# Altium footprint library TE-2-292173-8.PcbLib: 1 footprints
Each footprint in its own frame and in the unit in brackets; x right, y up, seen from the top. Pads: shape width x height; smd on the part's side, far side on the other; paste and mask are expansions set on the pad; w line width, h text height; cw(c..) or ccw(c..) is an arc to the next point about the centre after c.
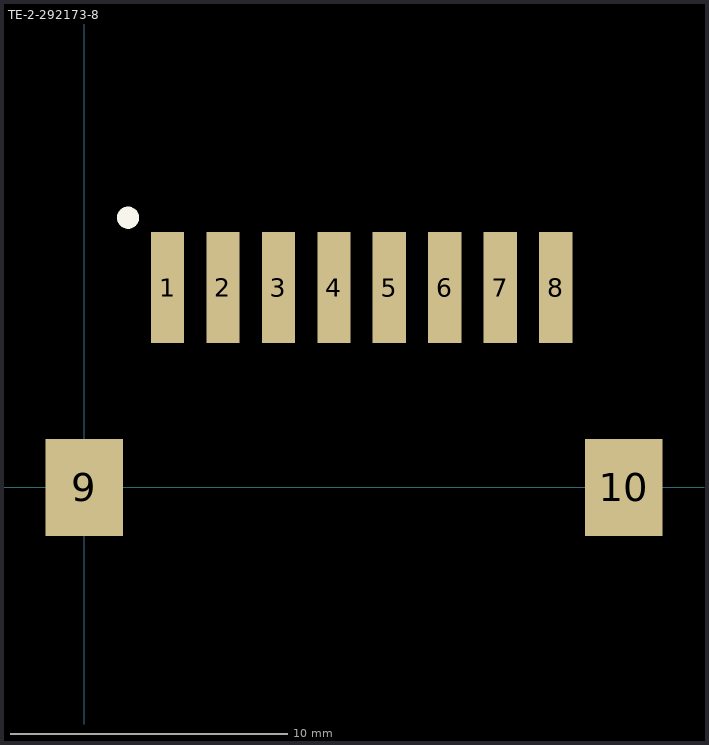
[diagram p0: the footprint, top view; thin cyan lines are the x and y axes]

## TE-2-292173-8 [mm]
pads (10):
  rect 1.2x4 smd mask+0.051: 1(3,7.2) 2(5,7.2) 3(7,7.2) 4(9,7.2) 5(11,7.2) 6(13,7.2) 7(15,7.2) 8(17,7.2)
  rect 2.8x3.5 smd: 9(0,0) 10(19.45,0)
Top Overlay:
  circle w0.4: c1.575,9.725 r0.2
3D body: height 5.79, standoff -0.06, extent -0.975,-2.325 20.425,8.075